# EAGLE library part 2-1571552-2 (library 8-Dip-Socket)
Row Spacing 2.54 mm Pitch Through Hole Dip Socket Check prices <https://pricing.snapeda.com/parts/2-1571552-2/TE%20Connectivity/view-part?ref=eda>
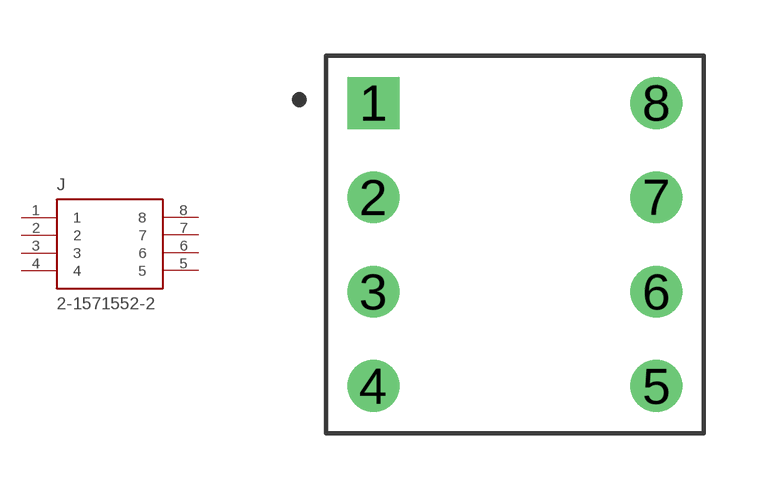
[diagram p0: symbol with the pads of TE_2-1571552-2; footprint TE_2-1571552-2]

Designator prefix J

## 2-1571552-2 (Availability: In Stock; Comment: 2-1571552-2; Contact_Current_Rating_Max: 3 A; Description: 8 (2 x 4) Pos DIP, 0.3 (7.62mm) Row Spacing Socket Gold Through Hole; EU_RoHS_Compliance: Compliant; MF: TE Connectivity; MP: 2-1571552-2; Package: None; Price: None; Product_Type: Socket)  [TE_2-1571552-2]
1  1  pas
2  2  pas
3  3  pas
4  4  pas
5  5  pas
6  6  pas
7  7  pas
8  8  pas

## Footprint TE_2-1571552-2 (pad centres in mm)
drill 0.889 square: 1 -3.81,3.81
drill 0.889: 2 -3.81,1.27; 3 -3.81,-1.27; 4 -3.81,-3.81; 5 3.81,-3.81; 6 3.81,-1.27; 7 3.81,1.27; 8 3.81,3.81